# Altium schematic symbol library AXP202.Schlib: 1 symbol
Pins are listed as number, name and electrical type; pins without a type are passive.

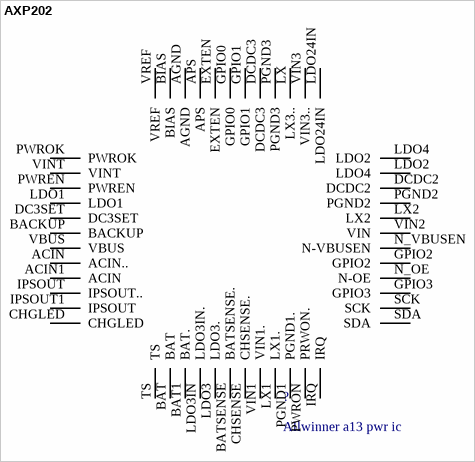
[diagram p0: symbol AXP202]

## AXP202
designator ?, comment Allwinner a13 pwr ic
footprint QFN48
pins: ACIN ACIN.., ACIN1 ACIN, AGND, APS, BACKUP, BAT, BAT1 BAT., BATSENSE BATSENSE., BIAS, CHGLED, CHSENSE CHSENSE., DC3SET, DCDC2, DCDC3, EXTEN, GPIO0, GPIO1, GPIO2, GPIO3, IPSOUT IPSOUT.., IPSOUT1 IPSOUT, IRQ, LDO1, LDO2 LDO4, LDO3 LDO3., LDO3IN LDO3IN., LDO4 LDO2, LDO24IN, LX LX3.., LX1 LX1., LX2, N_OE N-OE, N_VBUSEN N-VBUSEN, PGND1 PGND1., PGND2, PGND3, PWREN, PWROK, PWRON PRWON., SCK, SDA, TS, VBUS, VIN1 VIN1., VIN2 VIN, VIN3 VIN3.., VINT, VREF